# Altium footprint library BME280.PcbLib: 1 footprints
Each footprint in its own frame and in the unit in brackets; x right, y up, seen from the top. Pads: shape width x height; smd on the part's side, far side on the other; paste and mask are expansions set on the pad; w line width, h text height; cw(c..) or ccw(c..) is an arc to the next point about the centre after c.
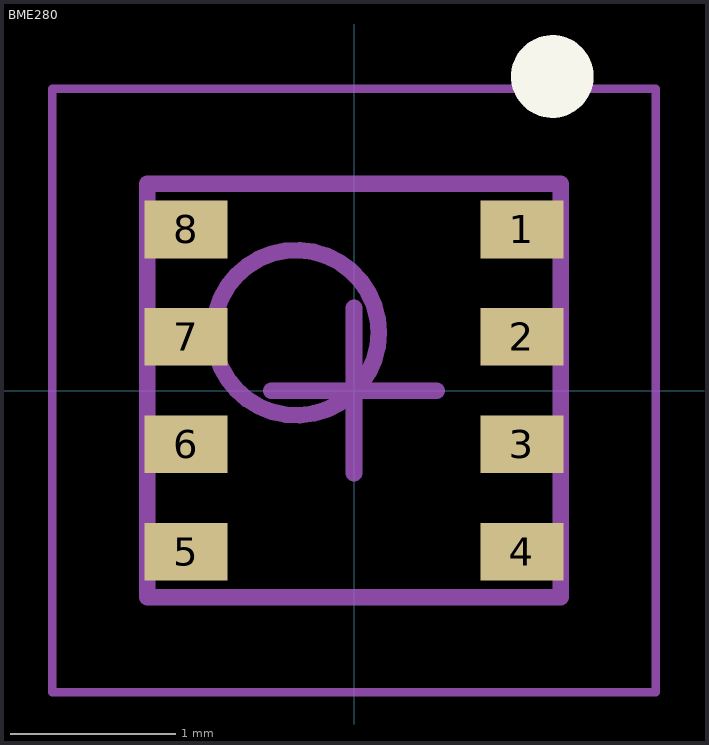
[diagram p0: the footprint, top view; thin cyan lines are the x and y axes]

## BME280 [mm]
height 1
pads (8):
  rect 0.5x0.35 smd: 1(1.016,0.975) 2(1.016,0.325) 3(1.016,-0.325) 4(1.016,-0.975) 5(-1.016,-0.975) 6(-1.016,-0.325) 7(-1.016,0.325) 8(-1.016,0.975)
Top Overlay:
  circle w0.25: c1.2,1.9 r0.125
Mechanical 13:
  circle w0.1: c-0.35,0.35 r0.5
  lines w0.1: -1.25,-1.25 -1.25,1.25 1.25,1.25 1.25,-1.25 -1.25,-1.25
Mechanical 15:
  lines w0.05: -1.825,-1.825 -1.825,1.825 1.825,1.825 1.825,-1.825 -1.825,-1.825
  lines w0.1: -0.5,0 0.5,0 ; 0,-0.5 0,0.5
3D body: height 1, standoff 0.05, extent -1.25,-1.25 1.25,1.25